# EAGLE library part TLC555CDR (library ece510_library)
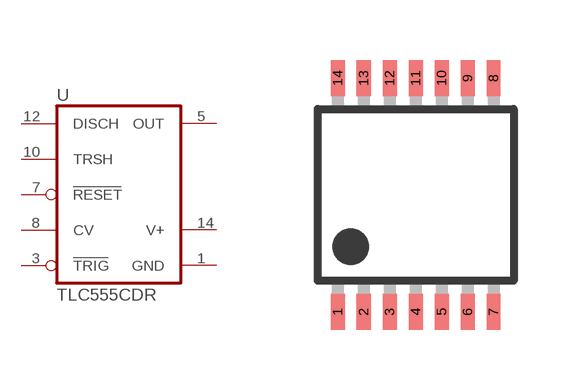
[diagram p0: symbol with the pads of TLC555CRD; footprint TLC555CRD]

Designator prefix -

## TLC555CDR  [TLC555CRD]
1  GND  pwr
2  NC  nc
3  TRIG
4  NC  nc
5  OUT  out
6  NC  nc
7  RESET  in
8  CV  pas
9  NC  nc
10  TRSH  in
11  NC  nc
12  DISCH  in
13  NC  nc
14  V+  pwr

## Footprint TLC555CRD (pad centres in mm)
smd 0.35 x 0.9: 1 -1.946,-2.928; 2 -1.296,-2.928; 3 -0.646,-2.928; 4 0.004,-2.928; 5 0.654,-2.928; 6 1.304,-2.928; 7 1.954,-2.928; 8 1.954,2.922; 9 1.304,2.922; 10 0.654,2.922; 11 0.004,2.922; 12 -0.646,2.922; 13 -1.296,2.922; 14 -1.946,2.922